# EAGLE library part GICV2.5-3-* (library Phoenix_GICV-GF)
inverted Connector 7,62 mm, 3 Pole, 500V, 12A/Pole
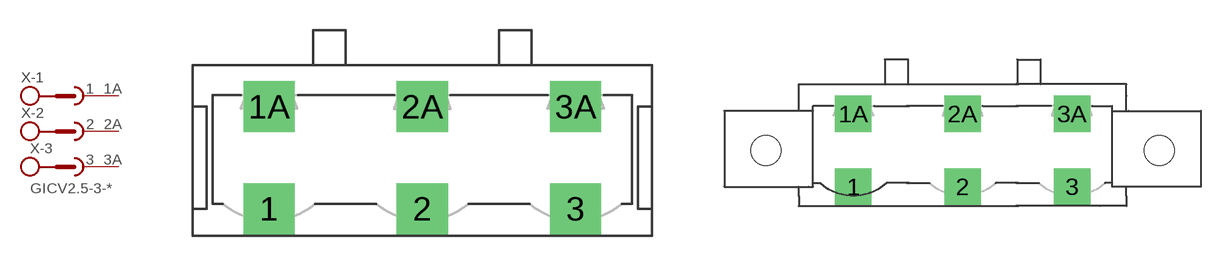
[diagram p0: symbol with the pads of GICV2.5-3-G; footprints GICV2.5-3-G, GICV2.5-3-GF]

Designator prefix X; gates -1=SKBD -2=SKBD -3=SKV+VD

## GICV2.5-3-G  [GICV2.5-3-G]
1  -1:1  pas
1A  -1:1A  pas
2  -2:1  pas
2A  -2:1A  pas
3  -3:1  pas
3A  -3:1A  pas

## GICV2.5-3-GF  [GICV2.5-3-GF]
Pads as for GICV2.5-3-G

## Footprint GICV2.5-3-G (pad centres in mm)
inverted Connector 7,62 mm, 3 polig, ohne Befestigungsblock!
drill 1.3 pad 2.54 square: 1 0,0; 1A 0,5.08; 2 7.62,0; 2A 7.62,5.08; 3 15.24,0; 3A 15.24,5.08

## Footprint GICV2.5-3-GF (pad centres in mm)
invertded Connector 7,62 mm, 3 polig, mit Befestigungsblock!
drill 1.3 pad 2.54 square: 1 0,0; 1A 0,5.08; 2 7.62,0; 2A 7.62,5.08; 3 15.24,0; 3A 15.24,5.08
hole 2.1 at -6.1,2.54
hole 2.1 at 21.34,2.54